# Altium footprint library 1751581.PcbLib: 1 footprints
Each footprint in its own frame and in the unit in brackets; x right, y up, seen from the top. Pads: shape width x height; smd on the part's side, far side on the other; paste and mask are expansions set on the pad; w line width, h text height; cw(c..) or ccw(c..) is an arc to the next point about the centre after c.
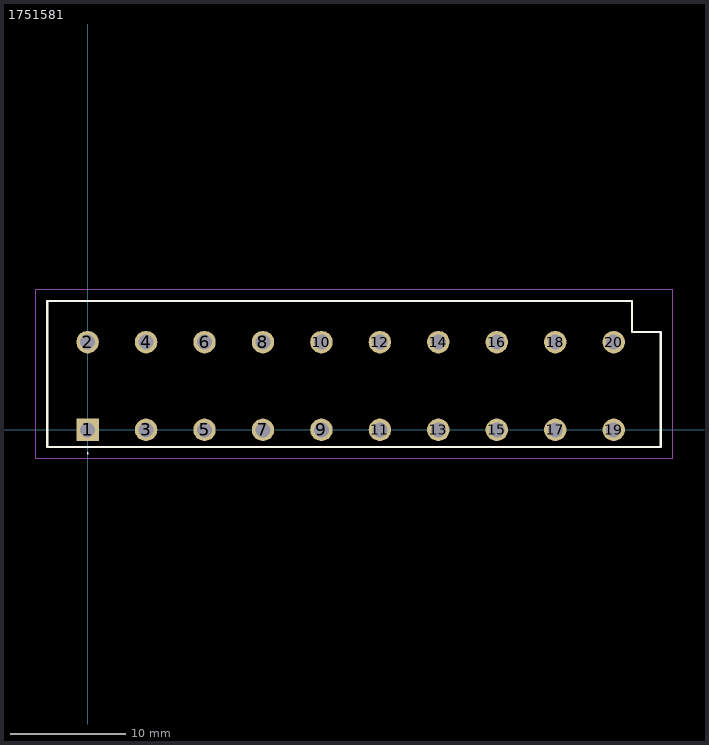
[diagram p0: the footprint, top view; thin cyan lines are the x and y axes]

## 1751581 [mm]
pads (20):
  rect 1.95x1.95 hole 1.3: 1(0,0)
  round 1.95 hole 1.3: 2(0,7.62) 3(5.08,0) 4(5.08,7.62) 5(10.16,0) 6(10.16,7.62) 7(15.24,0) 8(15.24,7.62) 9(20.32,0) 10(20.32,7.62) 11(25.4,0) 12(25.4,7.62) 13(30.48,0) 14(30.48,7.62) 15(35.56,0) 16(35.56,7.62) 17(40.64,0) 18(40.64,7.62) 19(45.72,0) 20(45.72,7.62)
Top Overlay:
  lines w0.1: 0,-2.1 cw(c0,-2.05) 0,-2 ; 0,-2.1 0,-2.1 ; 0,-2.1 ccw(c0,-2.05) 0,-2 ; 0,-2 0,-2
  lines w0.2: -3.5,-1.5 49.8,-1.5 49.8,8.5 47.3,8.5 47.3,11.2 45.72,11.2 -3.5,11.2 -3.5,-1.5
Mechanical 15:
  lines w0.1: -3.5,-1.5 49.8,-1.5 49.8,8.5 47.3,8.5 47.3,11.2 45.72,11.2 -3.5,11.2 -3.5,-1.5
Mechanical 20:
  lines w0.1: -4.5,-2.5 50.8,-2.5 50.8,12.2 -4.5,12.2 -4.5,-2.5